# Altium schematic symbol library CP2102-GM.SCHLIB: 1 symbol
Pins are listed as number, name and electrical type; pins without a type are passive.

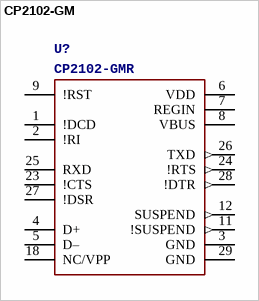
[diagram p0: symbol CP2102-GM]

## CP2102-GM
designator U?, comment CP2102-GMR
MF: Silicon Labs; Package: VFQFN-28 Vishay Siliconix; Price: $1.6; Availability: Unavailable; MP: CP2102-GMR; Link Store: https://lcsc.com/product-detail/USB-ICs_SILICON-LABS_CP2102-GMR_SILICON-LABS-CP2102-GMR_C6568.html
footprint QFN50P500X500X100-29N
pins: 1 !DCD, 2 !RI, 3 GND (power), 4 D+, 5 D–, 6 VDD (power), 7 REGIN (power), 8 VBUS (power), 9 !RST, 11 !SUSPEND (out), 12 SUSPEND (out), 18 NC/VPP, 23 !CTS, 24 !RTS (out), 25 RXD, 26 TXD (out), 27 !DSR, 28 !DTR (out), 29 GND (power)